# Altium schematic symbol library Relays & Transformers.SchLib: 2 symbols
Pins are listed as number, name and electrical type; pins without a type are passive.

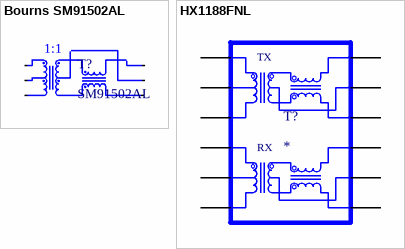
[diagram p0: symbols Bourns SM91502AL to HX1188FNL]

## Bourns SM91502AL
designator T?, comment SM91502AL
150µH  Pulse Transformer 1CT:1CT Surface Mount; Supplier 1: Digikey; Supplier 1 Part Number: SM91502ALECT-ND
footprint Bourns SM91502AL
pins: 1, 2, 3, 4, 5, 6
text: 1:1

## HX1188FNL
designator T?
Isolation and Data Interface _Encapsulated_ Pulse Transformer 1:1 Transmitter, 1:1 Receiver Surface Mount; MF: Pulse Electronics; MP: HX1188FNL; Digi-Key_Purchase_URL: https://www.digikey.com/product-detail/en/pulse-electronics-network/HX1188FNL/553-2200-5-ND/4168361?utm_source=snapeda&utm_medium=aggregator&utm_campaign=symbol; Digi-Key_Part_Number: 553-2200-5-ND; SnapEDA_Link: https://www.snapeda.com/parts/HX1188FNL/Pulse%20Electronics%20Network/view-part/1092143/?ref=snap; Package: Pulse Electronics; Value: *
footprint HX1188FNL
pins: 1, 2, 3, 6, 7, 8, 9, 10, 11, 14, 15, 16
text: TX; RX